# Altium footprint library Silonex.PcbLib: 1 footprints
Each footprint in its own frame and in the unit in brackets; x right, y up, seen from the top. Pads: shape width x height; smd on the part's side, far side on the other; paste and mask are expansions set on the pad; w line width, h text height; cw(c..) or ccw(c..) is an arc to the next point about the centre after c.
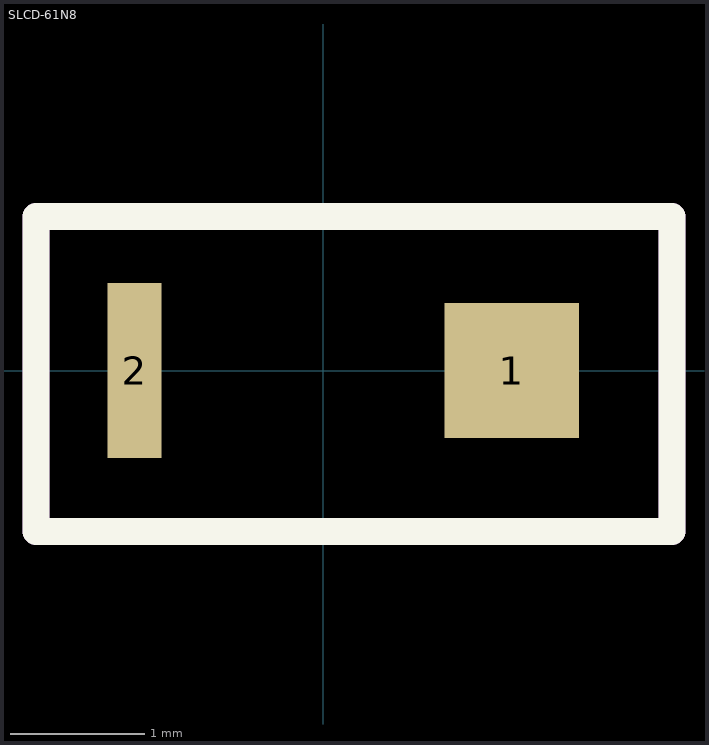
[diagram p0: the footprint, top view; thin cyan lines are the x and y axes]

## SLCD-61N8 [mm]
pads (2):
  rect 1x1 smd: 1(1.4,0)
  rect 0.4x1.3 smd: 2(-1.4,0)
Top Overlay:
  lines w0.2: -2.134,-1.194 2.591,-1.194 2.591,1.143 -2.134,1.143 -2.134,-1.194
Bottom Courtyard:
  lines w0.2: -2.134,-1.194 -2.134,1.143 2.591,1.143 2.591,-1.194 -2.134,-1.194